# EAGLE library part ADG714_DEV (library joyAnalog)
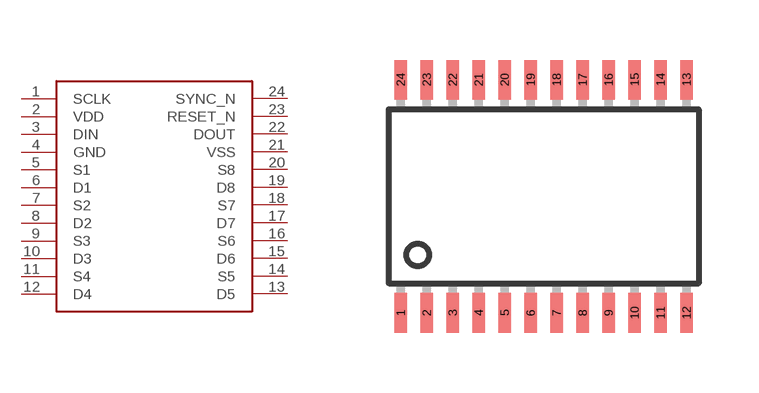
[diagram p1: symbol with the pads of TSSOP-24; footprint TSSOP-24]

Designator prefix -

## ADG714_DEV  [TSSOP-24]
1  SCLK
2  VDD
3  DIN
4  GND
5  S1
6  D1
7  S2
8  D2
9  S3
10  D3
11  S4
12  D4
13  D5
14  S5
15  D6
16  S6
17  D7
18  S7
19  D8
20  S8
21  VSS
22  DOUT
23  RESET_N
24  SYNC_N

## Footprint TSSOP-24 (pad centres in mm)
24-Lead Thin Shrink Small Outline Package TSSOP (RU-24) Source: http://www.analog.com/UploadedFiles/Data_Sheets/39677768AD7714_c.pdf
smd 0.305 x 0.991: 1 -3.575,-2.918; 2 -2.925,-2.918; 3 -2.275,-2.918; 4 -1.625,-2.918; 5 -0.975,-2.918; 6 -0.325,-2.918; 7 0.325,-2.918; 8 0.975,-2.918; 9 1.625,-2.918; 10 2.275,-2.918; 11 2.925,-2.918; 12 3.575,-2.918; 13 3.575,2.918; 14 2.925,2.918; 15 2.275,2.918; 16 1.625,2.918; 17 0.975,2.918; 18 0.325,2.918; 19 -0.325,2.918; 20 -0.975,2.918; 21 -1.625,2.918; 22 -2.275,2.918; 23 -2.925,2.918; 24 -3.575,2.918